# Altium footprint library PcbLib1.PcbLib: 19 footprints (part 2 of 2)
Each footprint in its own frame and in the unit in brackets; x right, y up, seen from the top. Pads: shape width x height; smd on the part's side, far side on the other; paste and mask are expansions set on the pad; w line width, h text height; cw(c..) or ccw(c..) is an arc to the next point about the centre after c.
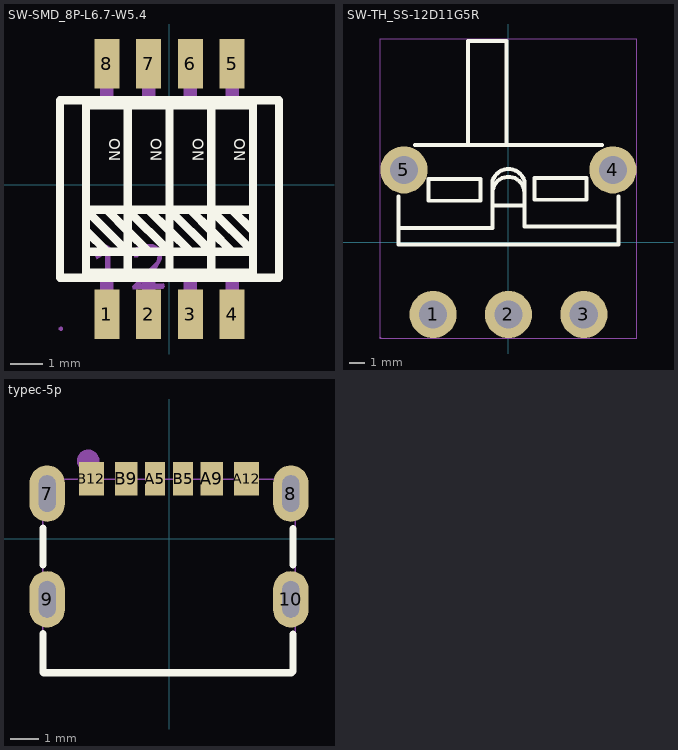
[diagram p1: the footprints below, top view; thin cyan lines are the x and y axes]

## SW-SMD_8P-L6.7-W5.4 [mil]
pads (8):
  rect 30x59.05 smd: 1(-75,-155) 2(-25,-155) 3(25,-155) 4(75,-155) 5(75,145) 6(25,145) 7(-25,145) 8(-75,145)
Top Overlay:
  lines w10: -100,-80 -50,-80 ; -100,-55 -75,-80 ; -75,-30 -50,-55 -25,-80 ; -25,-30 0,-55 25,-80 ; 25,-30 50,-55 75,-80 ; 75,-30 100,-55 ; 100,-30 50,-30 ; -50,-105 -50,95 ; -50,-105 -50,95 ; -50,-105 -50,95 ; -50,-105 -50,95 ; -50,-105 -100,-105 -100,95 -50,95 ; -50,-105 0,-105 ; -50,-80 -100,-30 -50,-30 ; -50,-80 0,-80 ; -50,-30 0,-80 ; -50,-30 0,-30 ; -50,95 0,95 ; 0,-105 50,-105 ; 0,-105 0,95 ; 0,-105 0,95 ; 0,-105 0,95 ; 0,-80 50,-80 ; 0,-30 50,-30 ; 0,-30 50,-80 ; 0,95 50,95 ; 50,-105 50,95 ; 50,-105 100,-105 100,95 50,95 ; 50,-105 50,95 ; 50,-80 100,-80 50,-30 ; -131.1,-111.3 131.11,-111.3 131.11,101.3 -131.1,101.3 -131.1,-111.3
  text "ON" at -72.21,55.54 h12.98
  text "ON" at 77.79,55.54 h12.98
  text "ON" at 27.79,55.54 h12.98
  text "ON" at -22.21,55.54 h12.98
Mechanical 6:
  region: -88.58,-85.71 -87.01,-88.86 -77.17,-83.34 -77.56,-125.86 -70.87,-126.26 -70.87,-74.68 -75.2,-71.93 -89.37,-82.95
  region: -38.2,-86.88 -34.26,-81.37 -29.53,-77.83 -21.66,-77.43 -15.36,-80.58 -14.18,-84.91 -15.36,-91.21 -44.49,-121.13 -43.71,-125.07 -37.8,-125.07 -7.49,-124.28 -5.52,-121.92 -6.7,-117.98 -34.26,-118.77 -15.36,-99.87 -9.46,-89.24 -8.67,-80.98 -11.82,-75.07 -19.3,-71.13 -30.32,-71.13 -39.77,-74.68 -43.71,-82.16 -41.34,-87.28
Mechanical 15:
  region: -127.56,-172.32 -127.56,-171.34 -128.94,-169.96 -130.9,-169.96 -132.28,-171.34 -132.28,-172.32 -132.28,-173.3 -130.9,-174.68 -128.94,-174.68 -127.56,-173.3 -127.56,-172.32
  region: -32.87,-140.04 -32.87,-110.91 -17.13,-110.91 -17.13,-140.04
  region: -32.87,-172.32 -32.87,-139.65 -17.13,-139.65 -17.13,-172.32
  region: -32.87,100.91 -32.87,130.04 -17.13,130.04 -17.13,100.91
  region: -32.87,129.65 -32.87,162.32 -17.13,162.32 -17.13,129.65
  region: 17.13,100.91 17.13,130.04 32.87,130.04 32.87,100.91
  region: 17.13,129.65 17.13,162.32 32.87,162.32 32.87,129.65
  region: 17.13,-140.04 17.13,-110.91 32.87,-110.91 32.87,-140.04
  region: 17.13,-172.32 17.13,-139.65 32.87,-139.65 32.87,-172.32
  region: 67.13,-140.04 67.13,-110.91 82.87,-110.91 82.87,-140.04
  region: 67.13,-172.32 67.13,-139.65 82.87,-139.65 82.87,-172.32
  region: 67.13,100.91 67.13,130.04 82.87,130.04 82.87,100.91
  region: 67.13,129.65 67.13,162.32 82.87,162.32 82.87,129.65
  region: -82.87,100.91 -82.87,130.04 -67.13,130.04 -67.13,100.91
  region: -82.87,129.65 -82.87,162.32 -67.13,162.32 -67.13,129.65
  region: -82.87,-140.04 -82.87,-110.91 -67.13,-110.91 -67.13,-140.04
  region: -82.87,-172.32 -82.87,-139.65 -67.13,-139.65 -67.13,-172.32
  lines w2: -129.92,-111.3 -129.92,101.3 129.92,101.3 129.92,-111.3 -129.92,-111.3
3D body "3D_PCB4_024-07-02.step": height 91.34, standoff 0, extent -126.09,-172.32 136.11,162.33

## SW-TH_SS-12D11G5R [mm]
pads (5):
  round 3 hole 1.8: 1(-4.8,-4.6) 2(0,-4.6) 3(4.8,-4.6) 4(6.65,4.6) 5(-6.65,4.6)
Top Overlay:
  lines w0.254: -7,0.899 -1.016,0.899 -1.016,3.147 cw(c0,3.147) 1.016,3.147 1.016,0.988 7,0.988 ; -7,2.905 -7,-0.13 7,-0.13 ; -5.946,6.18 5.946,6.18 ; -2.578,6.18 -2.578,12.8 -0.127,12.799 ; -1.016,2.326 1.016,2.326 ; -1.016,2.923 -1.016,3.909 cw(c0,3.594) 1.016,3.909 1.016,2.923 ; -0.127,6.187 -0.127,12.807 ; 7,-0.12 7,2.905 ; -5.08,2.639 -5.08,4.036 -1.778,4.036 -1.778,2.639 -5.08,2.639 ; 1.651,2.703 1.651,4.1 4.953,4.1 4.953,2.703 1.651,2.703
Mechanical 15:
  drawing of 10 lines, arcs and shapes, not listed
3D body "3D_PC4_2024-07-01.step": height 6.7, standoff -3.1, extent -6.627,-5.311 6.873,11.139

## typec-5p [mm]
pads (10):
  oval 1.25x2 hole 0.6 slot 1.3 at 90 deg paste+0 mask+0.05: 7(-4.32,1.611) 8(4.32,1.611) 9(-4.32,-2.139) 10(4.32,-2.139)
  rect 0.7x1.2 smd paste-100 mask+0.05: A5(-0.5,2.139) B5(0.5,2.139)
  rect 0.8x1.2 smd paste-100 mask+0.05: A9(1.52,2.139) B9(-1.52,2.139)
  rect 0.9x1.2 smd paste-100 mask+0.05: A12(2.75,2.139) B12(-2.75,2.139)
Top Overlay:
  lines w0.254: -4.467,-3.357 -4.467,-4.733 -4.455,-4.746 4.346,-4.746 4.397,-4.695 4.397,-3.367 ; -4.467,-0.921 -4.467,0.393 ; 4.397,-0.911 4.397,0.372
Top Paste:
  drawing of 10 lines, arcs and shapes, not listed
Mechanical 6:
  circle w0.4: c-2.869,2.773 r0.2
Mechanical 15:
  region: -0.78,2.377 -0.22,2.377 -0.22,1.577 -0.78,1.577
  region: 0.22,2.377 0.78,2.377 0.78,1.577 0.22,1.577
  region: 2.45,2.377 3.05,2.377 3.05,1.577 2.45,1.577
  region: 1.22,2.377 1.82,2.377 1.82,1.577 1.22,1.577
  region: -1.82,2.377 -1.22,2.377 -1.22,1.577 -1.82,1.577
  region: -3.05,2.377 -2.45,2.377 -2.45,1.577 -3.05,1.577
  region: 4.17,-1.739 4.47,-1.739 4.47,-2.539 4.17,-2.539
  region: -4.47,-1.739 -4.17,-1.739 -4.17,-2.539 -4.47,-2.539
  region: -4.47,2.011 -4.17,2.011 -4.17,1.211 -4.47,1.211
  region: 4.17,2.011 4.47,2.011 4.47,1.211 4.17,1.211
  region: -4.415,2.377 -4.416,2.401 -4.45,2.435 -4.499,2.435 -4.534,2.401 -4.535,2.377 -4.534,2.352 -4.499,2.318 -4.45,2.318 -4.416,2.352 -4.415,2.377
  lines w0.051: -4.475,-4.739 4.475,-4.739 4.475,2.111 -4.475,2.111 -4.475,-4.739
3D body "3D_PC4_2024-07-02.step": height 3.2, standoff -1, extent -4.475,-4.775 4.475,2.375